# Altium schematic symbol library SHARP-LH28F640BFHG-PBTLEZ.schlib: 1 symbol
Pins are listed as number, name and electrical type; pins without a type are passive.

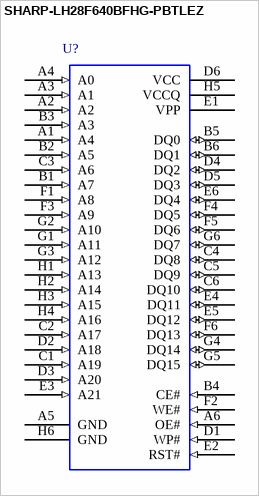
[diagram p0: symbol SHARP-LH28F640BFHG-PBTLEZ]

## SHARP-LH28F640BFHG-PBTLEZ
designator U?  (value not drawn)
Flash Memory 64Mbit (4Mbitx16); CircuitryPartsPN: SHARP-LH28F640BFHG-PBTLEZ; ManufacturerPN: LH28F640BFHG-PBTLEZ; Manufacturer: Sharp Microelectronics; CategoryI: Integrated Circuits (ICs); SchematicRev: A; DesignedBy: Circuitry Parts; MfgURL: http://www.sharpsma.com/; PackageName: CSP48; FootprintName: *; CategoryII: Memory; Value: *; DesignedOn: 7/19/2005 11:03:51 AM
pins: A1 A4 (in), A2 (in), A3 A1 (in), A4 A0 (in), A5 GND (power), A6 OE# (in), B1 A7 (in), B2 A5 (in), B3 A3 (in), B4 CE# (in), B5 DQ0 (io), B6 DQ1 (io), C1 A19 (in), C2 A17 (in), C3 A6 (in), C4 DQ8 (io), C5 DQ9 (io), C6 DQ10 (io), D1 WP# (in), D2 A18 (in), D3 A20 (in), D4 DQ2 (io), D5 DQ3 (io), D6 VCC (power), E1 VPP (power), E2 RST# (in), E3 A21 (in), E4 DQ11 (io), E5 DQ12 (io), E6 DQ4 (io), F1 A8 (in), F2 WE# (in), F3 A9 (in), F4 DQ5 (io), F5 DQ6 (io), F6 DQ13 (io), G1 A11 (in), G2 A10 (in), G3 A12 (in), G4 DQ14 (io), G5 DQ15 (io), G6 DQ7 (io), H1 A13 (in), H2 A14 (in), H3 A15 (in), H4 A16 (in), H5 VCCQ (power), H6 GND (power)